# Altium schematic symbol library DI_TVS.SchLib: 1 symbol
Pins are listed as number, name and electrical type; pins without a type are passive.

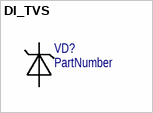
[diagram p0: symbol DI_TVS]

## DI_TVS
designator VD?  (value not drawn)
TVS диод (дезигнаторы пинов буквенные A/C); PartNumber: PartNumber
pins: A, C